# Altium schematic symbol library comp.SchLib: 17 symbols
Pins are listed as number, name and electrical type; pins without a type are passive.

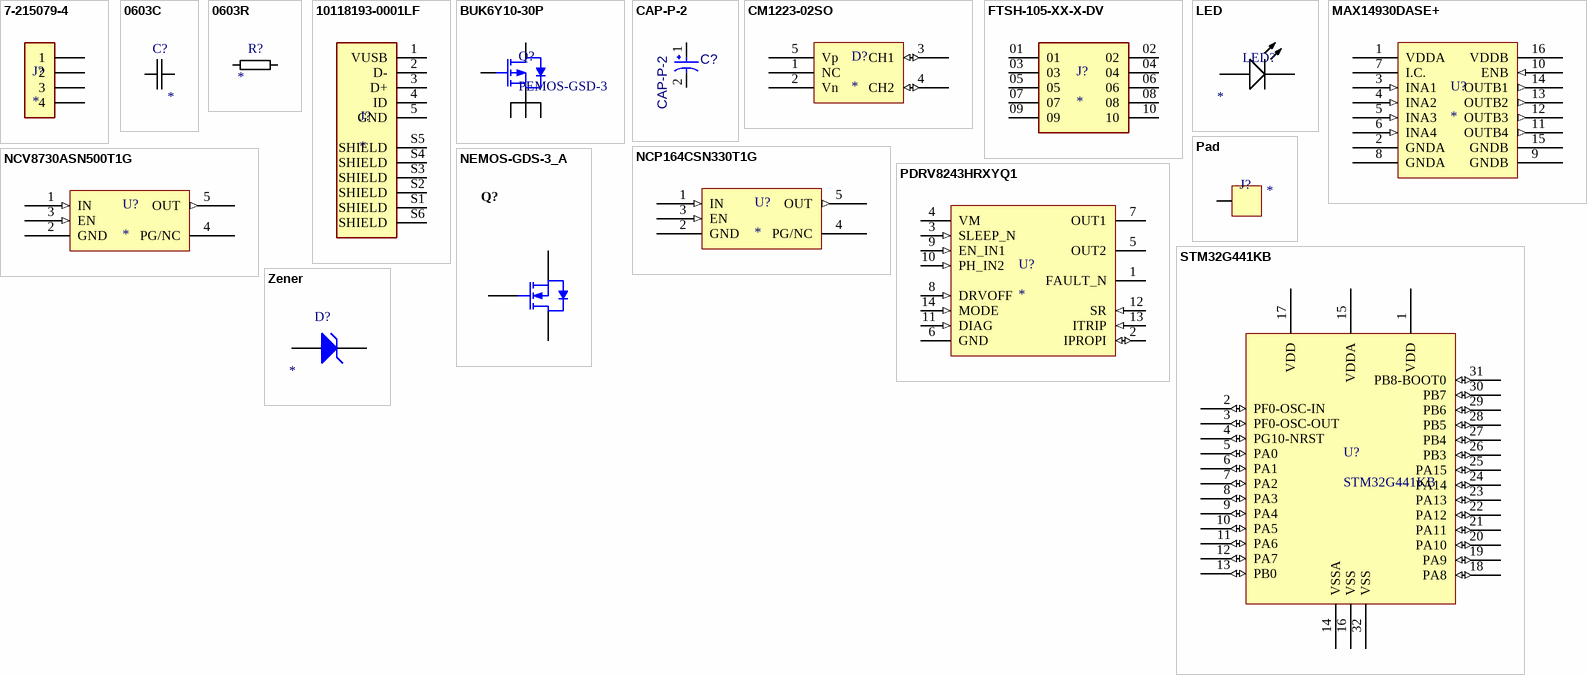
[diagram p0: symbols 7-215079-4 to Zener]

## 7-215079-4
designator J?
Micro-MaTch 4 Position 1.27 mm Pitch Vertical Female-on-Board Connector; MP: 7-215079-4; MF: TE Connectivity; Value: *; SnapEDA_Link: https://www.snapeda.com/parts/7-215079-4/TE%20Connectivity%20AMP%20Connectors/view-part/453401/?ref=snap; Price: None; Package: SMD-6; Availability: Unavailable
footprint TE_7-215079-4
pins: 1, 2, 3, 4

## 0603C
designator C?
Capacitor; c: *
footprint 0603R
pins: 1, 2

## 0603R
designator R?
resistor; RESISTANCE: *
footprint 0603R
pins: 1, 2

## 10118193-0001LF
designator J?
USB - micro B USB 2.0 Receptacle Connector 5 Position Surface Mount, Right Angle; Through Hole; MP: 10118193-0001LF; MF: Amphenol ICC; Availability: Unavailable; SnapEDA_Link: https://www.snapeda.com/parts/10118193-0001LF/Amphenol%20FCI/view-part/2758989/?ref=snap; Price: None; Value: *; Package: None
footprint FCI_10118193-0001LF
pins: 1 VUSB, 2 D-, 3 D+, 4 ID, 5 GND, S1 SHIELD, S2 SHIELD, S3 SHIELD, S4 SHIELD, S5 SHIELD, S6 SHIELD

## BUK6Y10-30P
designator Q?, comment PEMOS-GSD-3
Reverse voltage protection
footprint BUK6Y10-30P (TO, 5-Pads, Body 5,15x5,86mm (max), IPC Medium Density)
pins: 1 SOURCE, 2 SOURCE, 3 SOURCE, 4 GATE, 5 DRAIN

## CAP-P-2
designator C?
Capacitor
footprint CAPPR65-500-1250X1000X1350 - Cloned (THD, 2-Leads, Dia 10mm, Body Length 12.5mm)
pins: 1, 2

## CM1223-02SO
designator D?
TVS diode
footprint SOT95P280X145-5N (SOT23, 5-Leads, Body 2,90x2,80mm, Pitch 0,95mm, IPC Medium Density)
pins: 1 NC (power) "No Connect", 2 Vn (power) "GND", 3 CH1 (io), 4 CH2 (io), 5 Vp (power)

## FTSH-105-XX-X-DV
designator J?
Connector Header Surface Mount 10 position 0.050" (1.27mm); MP: FTSH-105-XX-X-DV; Availability: Unavailable; Package: None; Price: None; Value: *
footprint SAMTEC_FTSH-105-XX-X-DV
pins: 01, 02, 03, 04, 05, 06, 07, 08, 09, 10

## LED
designator LED?
led; color: *
footprint LEDwhite0603
pins: 1 A, 2 K

## MAX14930DASE+
designator U?
isolator
footprint MAX14930DASE+ (SOIC, 16-Leads, Body 9,90x3,90mm, Pitch 1,27mm, IPC Medium Density)
pins: 1 VDDA (power), 2 GNDA (power), 3 INA1 (in), 4 INA2 (in), 5 INA3 (in), 6 INA4 (in), 7 I.C. (power), 8 GNDA (power), 9 GNDB (power), 10 ENB (in), 11 OUTB4 (out), 12 OUTB3 (out), 13 OUTB2 (out), 14 OUTB1 (out), 15 GNDB (power), 16 VDDB (power)

## NCP164CSN330T1G
designator U?
Voltage regulator for microcontroller
footprint NCP164CSN330T1G/NCV8730ASN500T1G (voltage regulators)
pins: 1 IN (in), 2 GND (power), 3 EN (in), 4 PG/NC (oc), 5 OUT (out)

## NCV8730ASN500T1G
designator U?
Voltage regulator at the motor driver’s side
footprint NCP164CSN330T1G/NCV8730ASN500T1G (voltage regulators)
pins: 1 IN (in), 2 GND (power), 3 EN (in), 4 PG/NC (oc), 5 OUT (out)

## NEMOS-GDS-3_A
designator Q?
N MOSFET
pins: 1 G, 3 S, 4 D

## Pad
designator J?
PAD; Name: *
footprint Pad
pins: 16

## PDRV8243HRXYQ1
designator U?
Motor driver
footprint PDRV8243HRXYQ1
pins: 1 FAULT_N (oc), 2 IPROPI (io), 3 SLEEP_N (in), 4 VM (power), 5 OUT2, 6 GND (power), 7 OUT1, 8 DRVOFF (in), 9 EN_IN1 (in), 10 PH_IN2 (in), 11 DIAG (in), 12 SR (in), 13 ITRIP (in), 14 MODE (in)

## STM32G441KB
designator U?
microcontroller
footprint TQFP80P900X900X160-32N (TQFP, 32-Leads, Body 7,00x7,00mm, Pitch 0,80mm, IPC Medium Density)
pins: 1 VDD (power), 2 PF0-OSC-IN (io), 3 PF0-OSC-OUT (io), 4 PG10-NRST (io), 5 PA0 (io), 6 PA1 (io), 7 PA2 (io), 8 PA3 (io), 9 PA4 (io), 10 PA5 (io), 11 PA6 (io), 12 PA7 (io), 13 PB0 (io), 14 VSSA (power), 15 VDDA (power), 16 VSS (power), 17 VDD (power), 18 PA8 (io), 19 PA9 (io), 20 PA10 (io), 21 PA11 (io), 22 PA12 (io), 23 PA13 (io), 24 PA14 (io), 25 PA15 (io), 26 PB3 (io), 27 PB4 (io), 28 PB5 (io), 29 PB6 (io), 30 PB7 (io), 31 PB8-BOOT0 (io), 32 VSS (power)

## Zener
designator D?
voltage: *
pins: 1 A, 2 K